# Altium schematic symbol library DC_DC_CONVERTER.SCHLIB: 1 symbol
Pins are listed as number, name and electrical type; pins without a type are passive.

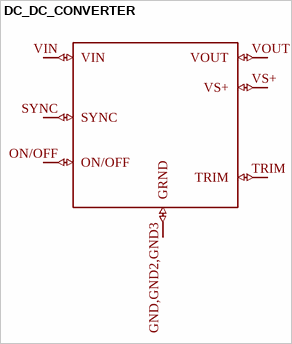
[diagram p0: symbol DC_DC_CONVERTER]

## DC_DC_CONVERTER
designator ?
GateName_1: G$1; SymbolName_1: DC_DC_CONVERTER; LibraryName: DC_DC_CONVERTER; DeviceSetName: DC_DC_CONVERTER; Package: DC_DC_CONVERTER
footprint DC_DC_CONVERTER
pins: GND,GND2,GND3 GRND (io), ON/OFF (io), SYNC (io), TRIM (io), VIN (io), VOUT (io), VS+ (io)